# EAGLE library part TCA6416A (library packages(ti))
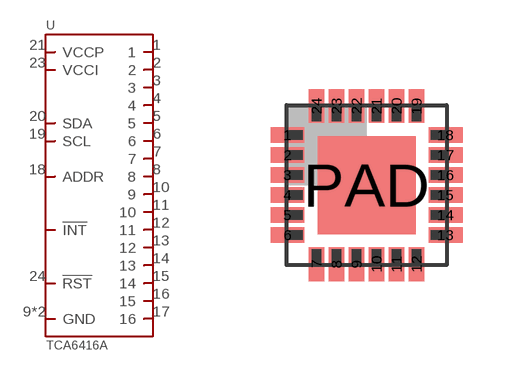
[diagram p17: symbol with the pads of RTW.24; footprint RTW.24]

Designator prefix -

## TCA6416A.RTW  [RTW.24]
1  1
2  2
3  3
4  4
5  5
6  6
7  7
8  8
9  GND
10  9
11  10
12  11
13  12
14  13
15  14
16  15
17  16
18  ADDR
19  SCL
20  SDA
21  VCCP
23  VCCI
24  !RST
PAD  GND

## Footprint RTW.24 (pad centres in mm)
smd 0.85 x 0.38: 1 -1.975,1.25; 2 -1.975,0.75; 3 -1.975,0.25; 4 -1.975,-0.25; 5 -1.975,-0.75; 6 -1.975,-1.25; 13 1.975,-1.25; 14 1.975,-0.75; 15 1.975,-0.25; 16 1.975,0.25; 17 1.975,0.75; 18 1.975,1.25
smd 0.38 x 0.85: 7 -1.25,-1.975; 8 -0.75,-1.975; 9 -0.25,-1.975; 10 0.25,-1.975; 11 0.75,-1.975; 12 1.25,-1.975; 19 1.25,1.975; 20 0.75,1.975; 21 0.25,1.975; 22 -0.25,1.975; 23 -0.75,1.975; 24 -1.25,1.975
smd 2.45 x 2.45: PAD 0,0